# Altium schematic symbol library BNC.SchLib: 1 symbol
Pins are listed as number, name and electrical type; pins without a type are passive.

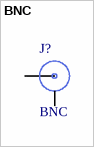
[diagram p0: symbol BNC]

## BNC
designator J?
Value: *
pins: 1, 2